# EAGLE library part AD8295BCPZ-WP (library Hexabitz)
Precision Instrumentation Amplifier with Signal Processing Amplifiers
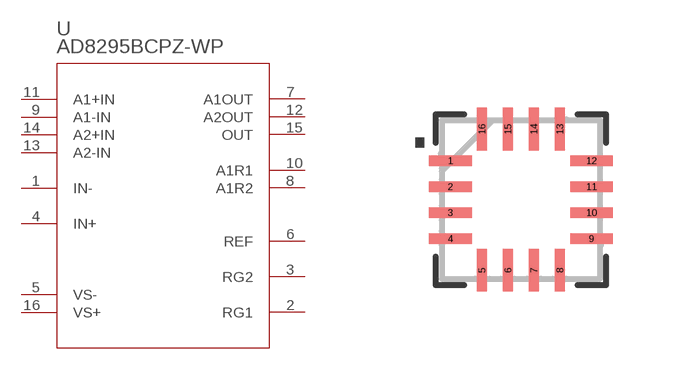
[diagram p15: symbol with the pads of CP_16_19; footprint CP_16_19]

Designator prefix U

## AD8295BCPZ-WP (MFN: Analog Devices; MPN: AD8295BCPZ-WP; OCTOPART_URL: https://octopart.com/ad8295bcpz-wp-analog+devices-17541165?r=sp&s=l3c7wRZFS06yY3Y4DbMCMg)  [CP_16_19]
1  IN-  pas
2  RG1  pas
3  RG2  pas
4  IN+  pas
5  VS-  pas
6  REF  pas
7  A1OUT  pas
8  A1R2  pas
9  A1-IN  pas
10  A1R1  pas
11  A1+IN  pas
12  A2OUT  pas
13  A2-IN  pas
14  A2+IN  pas
15  OUT  pas
16  VS+  pas

## Footprint CP_16_19 (pad centres in mm)
smd 1.067 x 0.254: 1 -1.765,0.975; 2 -1.765,0.325; 3 -1.765,-0.325; 4 -1.765,-0.975; 9 1.765,-0.975; 10 1.765,-0.325; 11 1.765,0.325; 12 1.765,0.975
smd 0.254 x 1.067: 5 -0.975,-1.765; 6 -0.325,-1.765; 7 0.325,-1.765; 8 0.975,-1.765; 13 0.975,1.765; 14 0.325,1.765; 15 -0.325,1.765; 16 -0.975,1.765